# Altium schematic symbol library Trans_ON_Semi_MMBT4401LT3G_eec.SchLib: 1 symbol
Pins are listed as number, name and electrical type; pins without a type are passive.

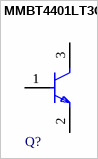
[diagram p0: symbol MMBT4401LT3G]

## MMBT4401LT3G
designator Q?  (value not drawn)
pins: 1 B, 2 E, 3 C